# Altium schematic symbol library Connectors Atum-el.SchLib: 1 symbol
Pins are listed as number, name and electrical type; pins without a type are passive.

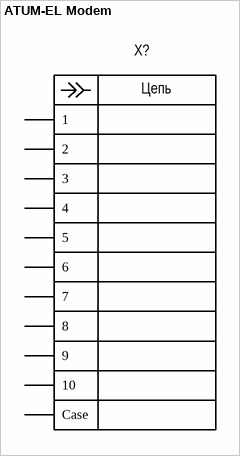
[diagram p0: symbol ATUM-EL Modem]

## ATUM-EL Modem
designator X?, comment PLD-10  (value not drawn)
Connector Rectangular 2.54 F 10P2 Board PBD ATUM-EL Modem; Manufacturer: On Shore Technology; Group: Mechanical; Pitch: 2.54mm; Positions: 10; Rows: 2; Current rating: 3.0A; Voltage rating: 250V; Placing: Vertical; Shrouding: Unshrouded; Connector type: Header; Dimension: 25.4mm x 5.08mm; Operating temperature: -40°C +105°C; Mounting type: Through hole; Package: Connector Rectangular 2.54 F 10P2 Board PBD ATUM-EL Modem; Part name: PLD-10; Height: 8.50mm; Insulation color: Black; Component: Connector Rectangular; Contact type: Male pin; Fastening type: Push-Pull; Series: PBD; Connector style: Board; Series name: PBD; System: Connector
footprint Connector Rectangular 2.54 F 10P2 Board PBD ATUM-EL Modem (Footprint not found)
pins: 1, 2, 3, 4, 5, 6, 7, 8, 9, 10, 11 Case
text: Цепь